# Altium integrated library BoschGryoBMG160.IntLib: 1 symbol
Pins are listed as number, name and electrical type; pins without a type are passive.

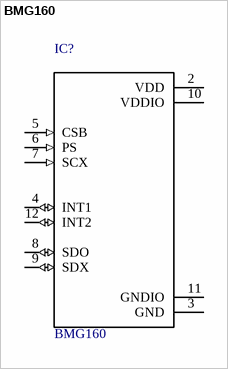
[diagram p0: symbol BMG160]

## BMG160
designator IC?
BMG160 Series 16 Bit 2000Â°/s 3-Axis Angular Rate Gyroscope Sensor 3 mm x 3 mm; MF: Bosch; MP: BMG160; Digi-Key_Purchase_URL: https://www.digikey.ca/product-detail/en/bosch-sensortec/BMG160/828-1042-1-ND/4196689?WT.z_cid=ref_snapeda; Package: VFLGA-12 Bosch; Digi-Key_Part_Number: 828-1042-1-ND; Value: *
footprint OFN50P300X300X100-12N
pins: 2 VDD (power), 3 GND, 4 INT1 (io), 5 CSB (in), 6 PS (in), 7 SCX (in), 8 SDO (io), 9 SDX (io), 10 VDDIO (power), 11 GNDIO, 12 INT2 (io)